# Altium schematic symbol library Dual_Schottky_AAS.SchLib: 1 symbol
Pins are listed as number, name and electrical type; pins without a type are passive.

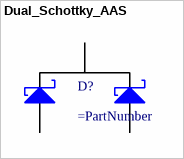
[diagram p0: symbol Dual_Schottky_AAS]

## Dual_Schottky_AAS
designator D?
pins: 1 A, 2 A, 3 S